# Altium schematic symbol library amplifier.SchLib: 5 symbols
Pins are listed as number, name and electrical type; pins without a type are passive.

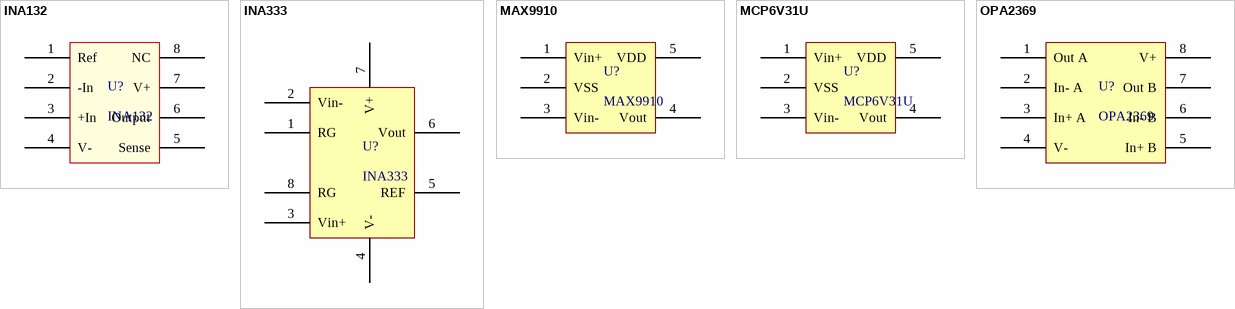
[diagram p0: symbols INA132 to OPA2369]

## INA132
designator U?
Low Power, Single-Supply  DIFFERENCE AMPLIFIER; Supplier 1: Digi-Key; Supplier Part Number 1: INA132UA-ND
footprint SOIC-8 (SOIC, 8-Leads, Body 4.90x3.90mm, Pitch 1.27mm, IPC Medium Density)
pins: 1 Ref, 2 -In, 3 +In, 4 V-, 5 Sense, 6 Output, 7 V+, 8 NC

## INA333
designator U?
Micro-Power (50µA), Zerø-Drift, Rail-to-Rail Out  Instrumentation Amplifier; Supplier 1: Digi-Key; Supplier Part Number 1: 296-23564-1-ND
footprint MSOP-8 (TSOP, 8-Leads, Body 3.00x3.00mm, Pitch 0.65mm, IPC Medium Density)
pins: 1 RG, 2 Vin-, 3 Vin+, 4 V-, 5 REF, 6 Vout, 7 V+, 8 RG

## MAX9910
designator U?
200kHz, 4µA, Rail-to-Rail  I/O Op Amps with Shutdown; Supplier 1: Digi-Key; Supplier Part Number 1: MAX9910EXK+TCT-ND
footprint SC70-5
pins: 1 Vin+, 2 VSS, 3 Vin-, 4 Vout, 5 VDD

## MCP6V31U
designator U?
23 µA, 300 kHz Zero-Drift Op Amps; Supplier 1: Digi-Key; Supplier Part Number 1: MCP6V31UT-E/LTCT-ND
footprint SC70-5
pins: 1 Vin+, 2 VSS, 3 Vin-, 4 Vout, 5 VDD

## OPA2369
designator U?
1.8V, 700nA, Zerø-Crossover  RAIL-TO-RAIL I/O OPERATIONAL AMPLIFIER; Supplier 1: Digi-Key; Supplier Part Number 1: 296-22671-1-ND
footprint SOT23-8
pins: 1 Out A, 2 In- A, 3 In+ A, 4 V-, 5 In+ B, 6 In- B, 7 Out B, 8 V+